# Altium footprint library adafruit.PCBLIB: 630 footprints (part 10 of 40)
Each footprint in its own frame and in the unit in brackets; x right, y up, seen from the top. Pads: shape width x height; smd on the part's side, far side on the other; paste and mask are expansions set on the pad; w line width, h text height; cw(c..) or ccw(c..) is an arc to the next point about the centre after c.
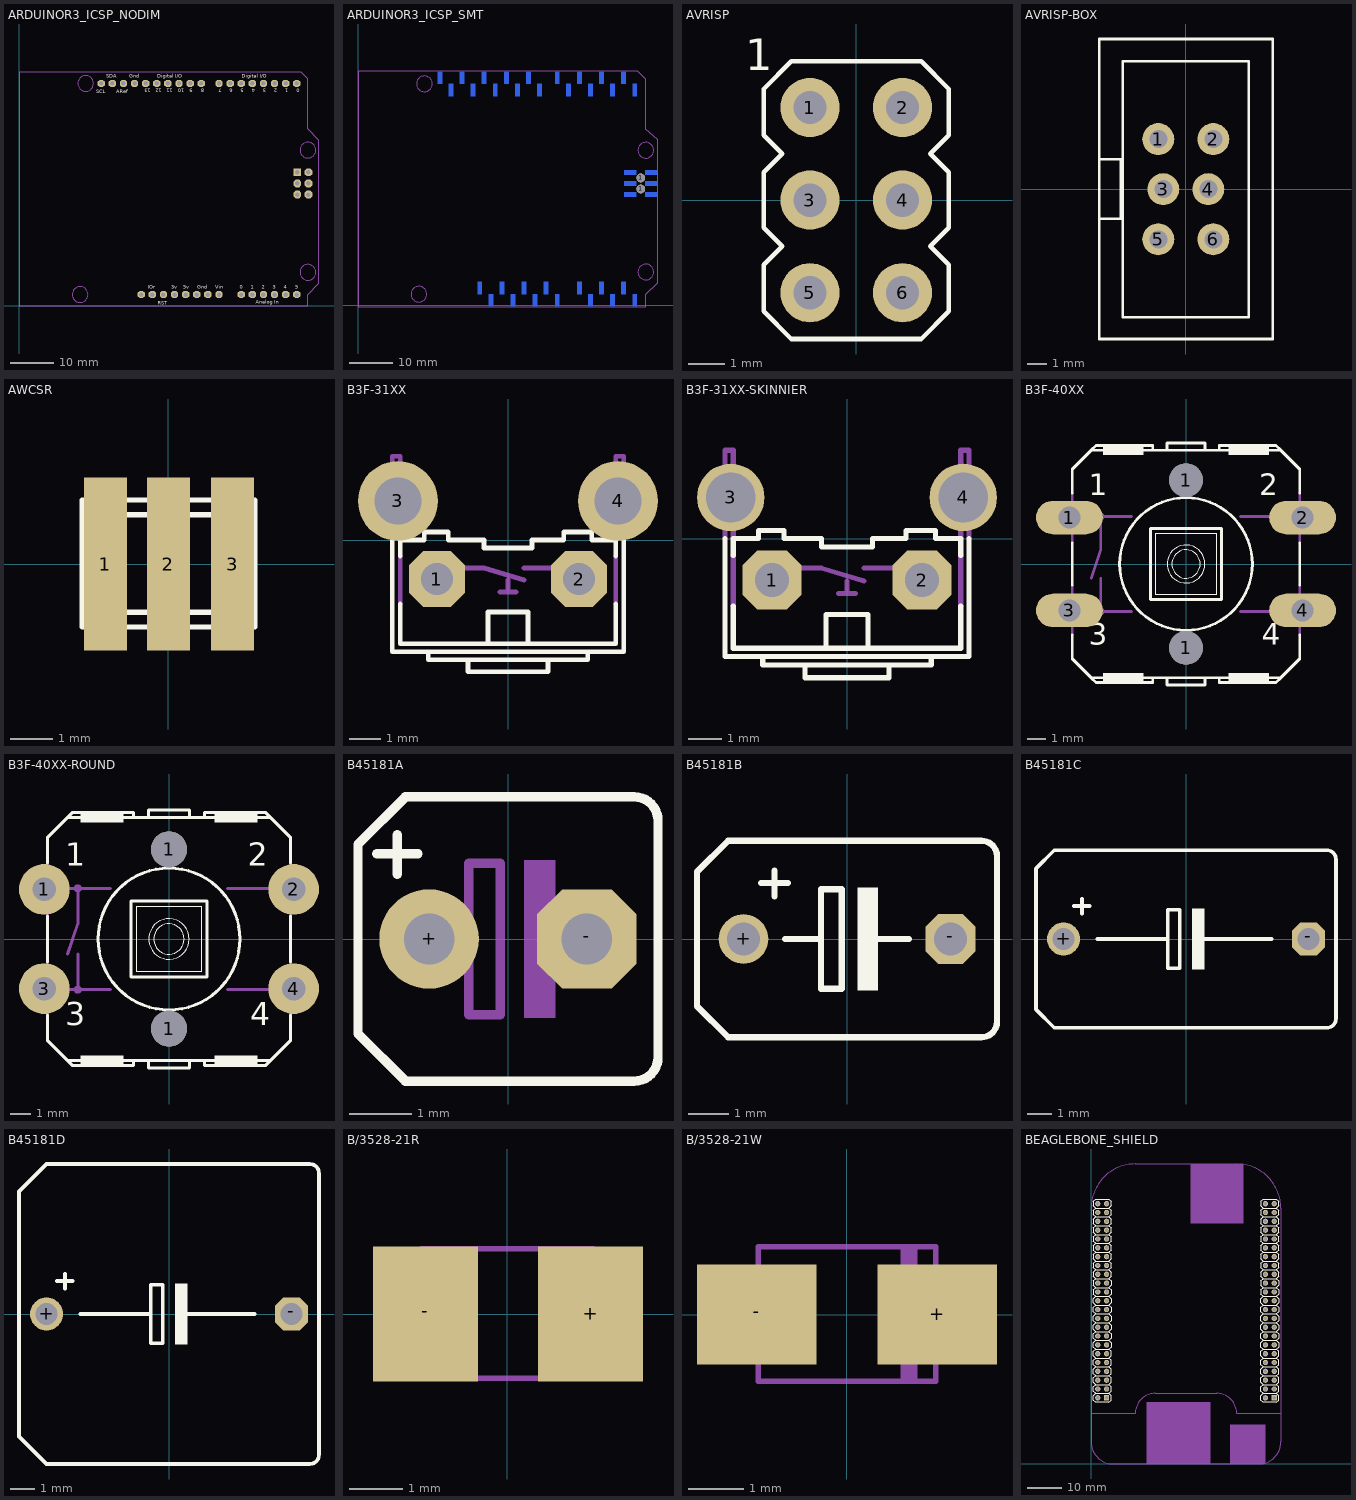
[diagram p9: the footprints below, top view; thin cyan lines are the x and y axes]

## ARDUINOR3_ICSP_NODIM [mil]
pads (38):
  oct 66x66 hole 40: 3V(1400,100) 5V(1500,100) A0(2000,100) A1(2100,100) A2(2200,100) A3(2300,100) A4(2400,100) A5(2500,100) AREF(940,2000) D0(2500,2000) D1(2400,2000) D2(2300,2000) D3(2200,2000) D4(2100,2000) D5(2000,2000) D6(1900,2000) D7(1800,2000) D8(1640,2000) D9(1540,2000) D10(1440,2000) D11(1340,2000) D12(1240,2000) D13(1140,2000) GND(1040,2000) GND@1(1700,100) GND@2(1600,100) IOREF(1200,100) RESERVED(1100,100) RESET(1300,100) SCL(740,2000) SDA(840,2000) VIN(1800,100)
  oct 70x70 hole 40: 5V_ICSP(2605,1200) GND@3(2605,1000) MOSI(2605,1100) RESET_ICSP(2505,1000) SCK(2505,1100)
  rect 70x70 hole 40: MISO(2505,1200)
Top Overlay:
  text "RST" at 1250,10 h34
  text "3v" at 1369,150 h34
  text "5v" at 1479,150 h34
  text "Gnd" at 1606,150 h34
  text "Vin" at 1764,150 h34
  text "Analog In" at 2131,19 h34
  text "0" at 1985,150 h34
  text "1" at 2085,150 h34
  text "2" at 2185,150 h34
  text "3" at 2285,150 h34
  text "4" at 2385,150 h34
  text "5" at 2485,150 h34
  text "ARef" at 875,1910 h34
  text "Gnd" at 990,2050 h34
  text "13" at 1185,1950 h34
  text "12" at 1285,1950 h34
  text "11" at 1385,1950 h34
  text "10" at 1485,1950 h34
  text "9" at 1565,1950 h34
  text "8" at 1665,1950 h34
  text "7" at 1825,1950 h34
  text "6" at 1925,1950 h34
  text "5" at 2025,1950 h34
  text "4" at 2125,1950 h34
  text "3" at 2225,1950 h34
  text "2" at 2325,1950 h34
  text "1" at 2425,1950 h34
  text "0" at 2525,1950 h34
  text "Digital I/O" at 1245,2050 h34
  text "Digital I/O" at 2005,2050 h34
  text "SCL" at 695,1910 h34
  text "SDA" at 785,2050 h34
  text "IOr" at 1160,150 h34
Mechanical 16:
  circle w5: c600,2000 r71
  circle w5: c550,100 r71
  circle w5: c2600,1400 r71
  circle w5: c2600,300 r71
  lines w0: 0,0 2600,0 2600,100 2700,200 2700,1490 2600,1590 2600,2040 2540,2100 0,2100 0,0

## ARDUINOR3_ICSP_SMT [mil]
pads (40):
  round 79 hole 79: 1(2555,1050) 1(2555,1150)
  rect 40x110 smd far side: 3V(1400,45) 5V(1500,155) A0(2000,155) A1(2100,45) A2(2200,155) A3(2300,45) A4(2400,155) A5(2500,45) AREF(940,2055) D0(2500,1945) D1(2400,2055) D2(2300,1945) D3(2200,2055) D4(2100,1945) D5(2000,2055) D6(1900,1945) D7(1800,2055) D8(1640,1945) D9(1540,2055) D10(1440,1945) D11(1340,2055) D12(1240,1945) D13(1140,2055) GND(1040,1945) GND@1(1700,155) GND@2(1600,45) IOREF(1200,45) RESERVED(1100,155) RESET(1300,155) SCL(740,2055) SDA(840,1945) VIN(1800,45)
  rect 110x40 smd far side: 5V_ICSP(2650,1200) GND@3(2650,1000) MISO(2460,1200) MOSI(2650,1100) RESET_ICSP(2460,1000) SCK(2460,1100)
Mechanical 16:
  circle w5: c600,2000 r71
  circle w5: c550,100 r71
  circle w5: c2600,1400 r71
  circle w5: c2600,300 r71
  lines w0: 0,-15 2600,-15 2600,100 2710,205 2710,1495 2600,1590 2600,2040 2525,2115 0,2115 0,-15

## AVRISP [mil]
pads (6):
  round 64 hole 36: 1(-50,100) 2(50,100) 3(-50,0) 4(50,0) 5(-50,-100) 6(50,-100)
Top Overlay:
  lines w5: -100,-120 -70,-150 70,-150 100,-120 100,-70 80,-50 100,-30 100,30 80,50 100,70 100,120 70,150 -70,150 -100,120 -100,70 -80,50 -100,30 -100,-30 -80,-50 -100,-70 -100,-120
  text "1" at -120,140 h34

## AVRISP-BOX [mil]
pads (6):
  round 64 hole 36: 1(-55,100) 2(55,100) 3(-45,0) 4(45,0) 5(-55,-100) 6(55,-100)
Top Overlay:
  lines w5: -173.23,-59.06 -173.23,-299.21 174,-299.21 174,300 -173.23,300 -173.23,60 ; -173.23,-59.06 -173.23,60 ; -173.23,-59.06 -129.92,-59.06 -129.92,60 -173.23,60 ; -125.98,-255.91 126,-255.91 126,256 -125.98,256 -125.98,-255.91

## AWCSR [mil]
pads (3):
  rect 40x162 smd: 1(-59.06,0) 2(0,0) 3(60,0)
Top Overlay:
  lines w5: -74.8,-57.09 -74.8,-47.24 ; -74.8,48 -74.8,60 ; -43.31,-57.09 -43.31,-47.24 ; -15.75,-57.09 -15.75,-45.28 ; -15.75,48 -15.75,60 ; 16,-57.09 16,-47.24 ; 16,48 16,60 ; 44,-57.09 44,-47.24 ; 44,48 44,60 ; 75,-57.09 75,-47.24 ; 75,48 75,60 ; -74.8,60 -80.71,60 -80.71,-59.06 -66.93,-59.06 cw(c-59.06,-59.06) -51.18,-59.06 -7.87,-59.06 cw(c0.06,-59.06) 8,-59.06 52,-59.06 cw(c59.5,-59.06) 67,-59.06 81,-59.06 81,60 75,60 ; -74.8,60 -66.93,60 ccw(c-59.06,60) -51.18,60 -43.31,60 ; -43.31,46 73,46 cw(c73,40) 79,40 79,-41.34 cw(c73.03,-39.31) 71,-45.28 -15.75,-45.28 ; -43.31,46 -74.8,46 ccw(c-74.77,42.03) -78.74,42 -78.74,-37.4 ccw(c-70.87,-37.4) -70.87,-45.28 -15.75,-45.28 ; -43.31,46 -43.31,60 ; -43.31,60 -15.75,60 ; -15.75,60 -7.87,60 ccw(c0.06,60) 8,60 16,60 ; 16,60 44,60 ; 44,60 52,60 ccw(c59.5,60) 67,60 75,60

## B3F-31XX [mil]
pads (4):
  oct 70x70 hole 40: 1(-89,-49) 2(89,-49)
  round 100 hole 59: 3(-138,49) 4(138,49)
Top Overlay:
  lines w6: -145,0 -145,-140 100,-140 ; -135,-80 -135,-130 -25,-130 ; -135,-20 -135,0 -105,0 -105,10 -75,10 -75,0 -30,0 -30,-10 30,-10 30,0 70,0 70,10 105,10 105,0 135,0 135,-20 ; -100,-140 -100,-150 -50,-150 ; 135,-80 135,-130 25,-130 ; 145,0 145,-140 100,-140 ; -50,-150 -50,-165 50,-165 50,-150 ; -50,-150 50,-150 ; -25,-130 -25,-90 25,-90 25,-130 ; -25,-130 25,-130 ; 50,-150 100,-150 100,-140
Mechanical 16:
  lines w6: -145,0 -145,105 -135,105 -135,0 ; -135,-80 -135,-20 ; -65,-35 -30,-35 20,-50 ; -10,-65 0,-65 ; 0,-50 0,-65 ; 10,-65 0,-65 ; 20,-35 65,-35 ; 135,-80 135,-20 ; 135,0 135,105 145,105 145,0

## B3F-31XX-SKINNIER [mil]
pads (4):
  oct 70x70 hole 40: 1(-89,-49) 2(89,-49)
  round 80 hole 59: 3(-138,49) 4(138,49)
Top Overlay:
  lines w6: -145,0 -145,-140 100,-140 ; -135,-80 -135,-130 -25,-130 ; -135,-20 -135,0 -105,0 -105,10 -75,10 -75,0 -30,0 -30,-10 30,-10 30,0 70,0 70,10 105,10 105,0 135,0 135,-20 ; -100,-140 -100,-150 -50,-150 ; 135,-80 135,-130 25,-130 ; 145,0 145,-140 100,-140 ; -50,-150 -50,-165 50,-165 50,-150 ; -50,-150 50,-150 ; -25,-130 -25,-90 25,-90 25,-130 ; -25,-130 25,-130 ; 50,-150 100,-150 100,-140
Mechanical 16:
  lines w6: -145,0 -145,105 -135,105 -135,0 ; -135,-80 -135,-20 ; -65,-35 -30,-35 20,-50 ; -10,-65 0,-65 ; 0,-50 0,-65 ; 10,-65 0,-65 ; 20,-35 65,-35 ; 135,-80 135,-20 ; 135,0 135,105 145,105 145,0

## B3F-40XX [mil]
pads (6):
  oval 141x70.5 hole 47: 1(-246,98) 2(246,98) 3(-246,-98) 4(246,-98)
  round 71 hole 71: 1(0,-177) 1(0,177)
Top Overlay:
  circle w6: c0,0 r140
  circle w2: c0,0 r40
  circle w2: c0,0 r30
  rectangle: 90,230 175,250
  rectangle: -175,230 -90,250
  rectangle: 90,-250 175,-230
  rectangle: -175,-250 -90,-230
  lines w2: -65,-65 65,-65 65,65 -65,65 -65,-65
  lines w6: -240,-150 -240,-200 -200,-240 ; -240,-45 -240,45 ; -240,150 -240,200 -200,240 ; 240,-150 240,-200 200,-240 ; 240,-45 240,45 ; 240,150 240,200 200,240 ; -200,-240 -70,-240 ; -200,-240 -190,-250 -70,-250 -70,-240 ; -200,240 -70,240 ; -200,240 -190,250 -70,250 -70,240 ; -70,-240 -40,-240 ; -70,240 -40,240 ; -40,-240 -40,-255 40,-255 40,-240 ; -40,-240 40,-240 ; -40,240 -40,255 40,255 40,240 ; -40,240 40,240 ; 40,-240 70,-240 ; 40,240 70,240 ; 70,-240 70,-250 190,-250 200,-240 ; 70,-240 200,-240 ; 70,240 200,240 ; 70,240 70,250 190,250 200,240 ; -75,-75 75,-75 75,75 -75,75 -75,-75
  text "1" at -205,130 h77.5
  text "2" at 155,130 h77.5
  text "3" at -205,-185 h77.5
  text "4" at 160,-185 h77.5
Mechanical 16:
  circle w6: c-180,100 r5
  circle w6: c-180,-100 r5
  rectangle: 240,-115 260,-80
  rectangle: 240,80 260,115
  rectangle: -260,80 -240,115
  rectangle: -260,-115 -240,-80
  lines w6: -240,-150 -240,-45 ; -240,45 -240,150 ; -200,-100 -180,-100 ; -200,-30 -180,30 -180,100 ; -200,100 -180,100 ; -180,-30 -180,-100 ; -115,-100 -180,-100 ; -115,100 -180,100 ; 115,-100 200,-100 ; 115,100 200,100 ; 240,-150 240,-45 ; 240,45 240,150

## B3F-40XX-ROUND [mil]
pads (6):
  round 100 hole 47: 1(-246,98) 2(246,98) 3(-246,-98) 4(246,-98)
  round 71 hole 71: 1(0,-177) 1(0,177)
Top Overlay:
  circle w6: c0,0 r140
  circle w2: c0,0 r40
  circle w2: c0,0 r30
  rectangle: 90,230 175,250
  rectangle: -175,230 -90,250
  rectangle: 90,-250 175,-230
  rectangle: -175,-250 -90,-230
  lines w2: -65,-65 65,-65 65,65 -65,65 -65,-65
  lines w6: -240,-150 -240,-200 -200,-240 ; -240,-45 -240,45 ; -240,150 -240,200 -200,240 ; 240,-150 240,-200 200,-240 ; 240,-45 240,45 ; 240,150 240,200 200,240 ; -200,-240 -70,-240 ; -200,-240 -190,-250 -70,-250 -70,-240 ; -200,240 -70,240 ; -200,240 -190,250 -70,250 -70,240 ; -70,-240 -40,-240 ; -70,240 -40,240 ; -40,-240 -40,-255 40,-255 40,-240 ; -40,-240 40,-240 ; -40,240 -40,255 40,255 40,240 ; -40,240 40,240 ; 40,-240 70,-240 ; 40,240 70,240 ; 70,-240 70,-250 190,-250 200,-240 ; 70,-240 200,-240 ; 70,240 200,240 ; 70,240 70,250 190,250 200,240 ; -75,-75 75,-75 75,75 -75,75 -75,-75
  text "1" at -205,130 h77.5
  text "2" at 155,130 h77.5
  text "3" at -205,-185 h77.5
  text "4" at 160,-185 h77.5
Mechanical 16:
  circle w6: c-180,100 r5
  circle w6: c-180,-100 r5
  rectangle: 240,-115 260,-80
  rectangle: 240,80 260,115
  rectangle: -260,80 -240,115
  rectangle: -260,-115 -240,-80
  lines w6: -240,-150 -240,-45 ; -240,45 -240,150 ; -200,-100 -180,-100 ; -200,-30 -180,30 -180,100 ; -200,100 -180,100 ; -180,-30 -180,-100 ; -115,-100 -180,-100 ; -115,100 -180,100 ; 115,-100 200,-100 ; 115,100 200,100 ; 240,-150 240,-45 ; 240,45 240,150

## B45181A [mil]
pads (2):
  round 63 hole 32: +(-50,0)
  oct 63x63 hole 32: -(50,0)
Top Overlay:
  lines w6: -83,54 -57,54 ; -70,41 -70,66 ; -95,-60 -65,-90 80,-90 ccw(c80,-75) 95,-75 95,75 ccw(c80,75) 80,90 -65,90 -95,60 -95,-60
Mechanical 16:
  rectangle: 10,-50 30,50
  lines w6: -65,0 -25,0 ; 25,0 65,0 ; -25,0 -25,-48 -5,-48 -5,48 -25,48 -25,0

## B45181B [mil]
pads (2):
  round 48 hole 32: +(-100,0)
  oct 48x48 hole 32: -(100,0)
Top Overlay:
  rectangle: 10,-50 30,50
  lines w6: -83,54 -57,54 ; -70,41 -70,66 ; -60,0 -25,0 ; 25,0 60,0 ; -25,0 -25,-48 -5,-48 -5,48 -25,48 -25,0 ; -145,-65 -115,-95 130,-95 ccw(c130,-80) 145,-80 145,80 ccw(c130,80) 130,95 -115,95 -145,65 -145,-65

## B45181C [mil]
pads (2):
  round 54 hole 36: +(-200,0)
  oct 54x54 hole 36: -(200,0)
Top Overlay:
  rectangle: 10,-50 30,50
  lines w6: -183,54 -157,54 ; -170,41 -170,66 ; -145,0 -30,0 ; 25,0 140,0 ; -30,0 -30,-48 -10,-48 -10,48 -30,48 -30,0 ; -245,-115 -215,-145 230,-145 ccw(c230,-130) 245,-130 245,130 ccw(c230,130) 230,145 -215,145 -245,115 -245,-115

## B45181D [mil]
pads (2):
  round 54 hole 36: +(-200,0)
  oct 54x54 hole 36: -(200,0)
Top Overlay:
  rectangle: 10,-50 30,50
  lines w6: -183,54 -157,54 ; -170,41 -170,66 ; -145,0 -30,0 ; 25,0 140,0 ; -30,0 -30,-48 -10,-48 -10,48 -30,48 -30,0 ; -245,-200 -200,-245 230,-245 ccw(c230,-230) 245,-230 245,230 ccw(c230,230) 230,245 -200,245 -245,200 -245,-200

## B/3528-21R [mil]
pads (2):
  rect 77x99 smd: +(61,0) -(-60.04,0)
Mechanical 16:
  rectangle: -68.9,-23.62 -63.98,24
  rectangle: 64,-23.62 69,24
  rectangle: 38,-48.23 50,49
  lines w4: -62.99,-47.24 63,-47.24 63,48 -62.99,48 -62.99,-47.24

## B/3528-21W [mil]
pads (2):
  rect 85x71 smd: +(64,0) -(-63.98,0)
Mechanical 16:
  rectangle: -68.9,-23.62 -63.98,24
  rectangle: 64,-23.62 69,24
  rectangle: 38,-48.23 50,49
  lines w4: -62.99,-47.24 63,-47.24 63,48 -62.99,48 -62.99,-47.24

## BEAGLEBONE_SHIELD [mil]
pads (92):
  rect 60x60 hole 40: 1(175,750) 47(2075,750)
  round 60 hole 40: 2(75,750) 3(175,850) 4(75,850) 5(175,950) 6(75,950) 7(175,1050) 8(75,1050) 9(175,1150) 10(75,1150) 11(175,1250) 12(75,1250) 13(175,1350) 14(75,1350) 15(175,1450) 16(75,1450) 17(175,1550) 18(75,1550) 19(175,1650) 20(75,1650) 21(175,1750) 22(75,1750) 23(175,1850) 24(75,1850) 25(175,1950) 26(75,1950) 27(175,2050) 28(75,2050) 29(175,2150) 30(75,2150) 31(175,2250) 32(75,2250) 33(175,2350) 34(75,2350) 35(175,2450) 36(75,2450) 37(175,2550) 38(75,2550) 39(175,2650) 40(75,2650) 41(175,2750) 42(75,2750) 43(175,2850) 44(75,2850) 45(175,2950) 46(75,2950) 48(1975,750) 49(2075,850) 50(1975,850) 51(2075,950) 52(1975,950) 53(2075,1050) 54(1975,1050) 55(2075,1150) 56(1975,1150) 57(2075,1250) 58(1975,1250) 59(2075,1350) 60(1975,1350) 61(2075,1450) 62(1975,1450) 63(2075,1550) 64(1975,1550) 65(2075,1650) 66(1975,1650) 67(2075,1750) 68(1975,1750) 69(2075,1850) 70(1975,1850) 71(2075,1950) 72(1975,1950) 73(2075,2050) 74(1975,2050) 75(2075,2150) 76(1975,2150) 77(2075,2250) 78(1975,2250) 79(2075,2350) 80(1975,2350) 81(2075,2450) 82(1975,2450) 83(2075,2550) 84(1975,2550) 85(2075,2650) 86(1975,2650) 87(2075,2750) 88(1975,2750) 89(2075,2850) 90(1975,2850) 91(2075,2950) 92(1975,2950)
Top Overlay:
  drawing of 324 lines, arcs and shapes, not listed
Mechanical 1:
  lines w5: 0,575 0,2900 cw(c500,2900) 500,3400 1650,3400 cw(c1650,2900) 2150,2900 2150,575 1650,575 ccw(c1425,575) 1425,800 725,800 ccw(c725,575) 500,575 0,575
Mechanical 16:
  region: 185,740 185,760 165,760 165,740
  region: 85,740 85,760 65,760 65,740
  region: 85,840 85,860 65,860 65,840
  region: 185,840 185,860 165,860 165,840
  region: 85,940 85,960 65,960 65,940
  region: 185,940 185,960 165,960 165,940
  region: 85,1040 85,1060 65,1060 65,1040
  region: 85,1140 85,1160 65,1160 65,1140
  region: 85,1240 85,1260 65,1260 65,1240
  region: 185,1040 185,1060 165,1060 165,1040
  region: 185,1140 185,1160 165,1160 165,1140
  region: 185,1240 185,1260 165,1260 165,1240
  region: 85,1340 85,1360 65,1360 65,1340
  region: 185,1340 185,1360 165,1360 165,1340
  region: 85,1440 85,1460 65,1460 65,1440
  region: 185,1440 185,1460 165,1460 165,1440
  region: 85,1540 85,1560 65,1560 65,1540
  region: 185,1540 185,1560 165,1560 165,1540
  region: 85,1640 85,1660 65,1660 65,1640
  region: 185,1640 185,1660 165,1660 165,1640
  region: 85,1740 85,1760 65,1760 65,1740
  region: 185,1740 185,1760 165,1760 165,1740
  region: 85,1840 85,1860 65,1860 65,1840
  region: 185,1840 185,1860 165,1860 165,1840
  region: 85,1940 85,1960 65,1960 65,1940
  region: 185,1940 185,1960 165,1960 165,1940
  region: 85,2040 85,2060 65,2060 65,2040
  region: 185,2040 185,2060 165,2060 165,2040
  region: 85,2140 85,2160 65,2160 65,2140
  region: 185,2140 185,2160 165,2160 165,2140
  region: 85,2240 85,2260 65,2260 65,2240
  region: 185,2240 185,2260 165,2260 165,2240
  region: 85,2340 85,2360 65,2360 65,2340
  region: 185,2340 185,2360 165,2360 165,2340
  region: 85,2440 85,2460 65,2460 65,2440
  region: 185,2440 185,2460 165,2460 165,2440
  region: 85,2540 85,2560 65,2560 65,2540
  region: 185,2540 185,2560 165,2560 165,2540
  region: 85,2640 85,2660 65,2660 65,2640
  region: 185,2640 185,2660 165,2660 165,2640
  region: 85,2740 85,2760 65,2760 65,2740
  region: 185,2740 185,2760 165,2760 165,2740
  region: 85,2840 85,2860 65,2860 65,2840
  region: 185,2840 185,2860 165,2860 165,2840
  region: 85,2940 85,2960 65,2960 65,2940
  region: 185,2940 185,2960 165,2960 165,2940
  region: 2085,740 2085,760 2065,760 2065,740
  region: 1985,740 1985,760 1965,760 1965,740
  region: 1985,840 1985,860 1965,860 1965,840
  region: 2085,840 2085,860 2065,860 2065,840
  region: 1985,940 1985,960 1965,960 1965,940
  region: 2085,940 2085,960 2065,960 2065,940
  region: 1985,1040 1985,1060 1965,1060 1965,1040
  region: 1985,1140 1985,1160 1965,1160 1965,1140
  region: 1985,1240 1985,1260 1965,1260 1965,1240
  region: 2085,1040 2085,1060 2065,1060 2065,1040
  region: 2085,1140 2085,1160 2065,1160 2065,1140
  region: 2085,1240 2085,1260 2065,1260 2065,1240
  region: 1985,1340 1985,1360 1965,1360 1965,1340
  region: 2085,1340 2085,1360 2065,1360 2065,1340
  region: 1985,1440 1985,1460 1965,1460 1965,1440
  region: 2085,1440 2085,1460 2065,1460 2065,1440
  region: 1985,1540 1985,1560 1965,1560 1965,1540
  region: 2085,1540 2085,1560 2065,1560 2065,1540
  region: 1985,1640 1985,1660 1965,1660 1965,1640
  region: 2085,1640 2085,1660 2065,1660 2065,1640
  region: 1985,1740 1985,1760 1965,1760 1965,1740
  region: 2085,1740 2085,1760 2065,1760 2065,1740
  region: 1985,1840 1985,1860 1965,1860 1965,1840
  region: 2085,1840 2085,1860 2065,1860 2065,1840
  region: 1985,1940 1985,1960 1965,1960 1965,1940
  region: 2085,1940 2085,1960 2065,1960 2065,1940
  region: 1985,2040 1985,2060 1965,2060 1965,2040
  region: 2085,2040 2085,2060 2065,2060 2065,2040
  region: 1985,2140 1985,2160 1965,2160 1965,2140
  region: 2085,2140 2085,2160 2065,2160 2065,2140
  region: 1985,2240 1985,2260 1965,2260 1965,2240
  region: 2085,2240 2085,2260 2065,2260 2065,2240
  region: 1985,2340 1985,2360 1965,2360 1965,2340
  region: 2085,2340 2085,2360 2065,2360 2065,2340
  region: 1985,2440 1985,2460 1965,2460 1965,2440
  region: 2085,2440 2085,2460 2065,2460 2065,2440
  region: 1985,2540 1985,2560 1965,2560 1965,2540
  region: 2085,2540 2085,2560 2065,2560 2065,2540
  region: 1985,2640 1985,2660 1965,2660 1965,2640
  region: 2085,2640 2085,2660 2065,2660 2065,2640
  region: 1985,2740 1985,2760 1965,2760 1965,2740
  region: 2085,2740 2085,2760 2065,2760 2065,2740
  region: 1985,2840 1985,2860 1965,2860 1965,2840
  region: 2085,2840 2085,2860 2065,2860 2065,2840
  region: 1985,2940 1985,2960 1965,2960 1965,2940
  region: 2085,2940 2085,2960 2065,2960 2065,2940
  lines w5: 0,575 0,250 ccw(c250,250) 250,0 1900,0 ccw(c1900,250) 2150,250 2150,575
  text "P8" at 100,3050 h77.5
  text "P9" at 2000,3050 h77.5
Mechanical 27:
  rectangle: 1125,2725 1725,3400
  rectangle: 1575,0 1975,450
  rectangle: 625,0 1350,700